# Altium schematic symbol library STM32F103ZGH6.SchLib: 1 symbol
Pins are listed as number, name and electrical type; pins without a type are passive.

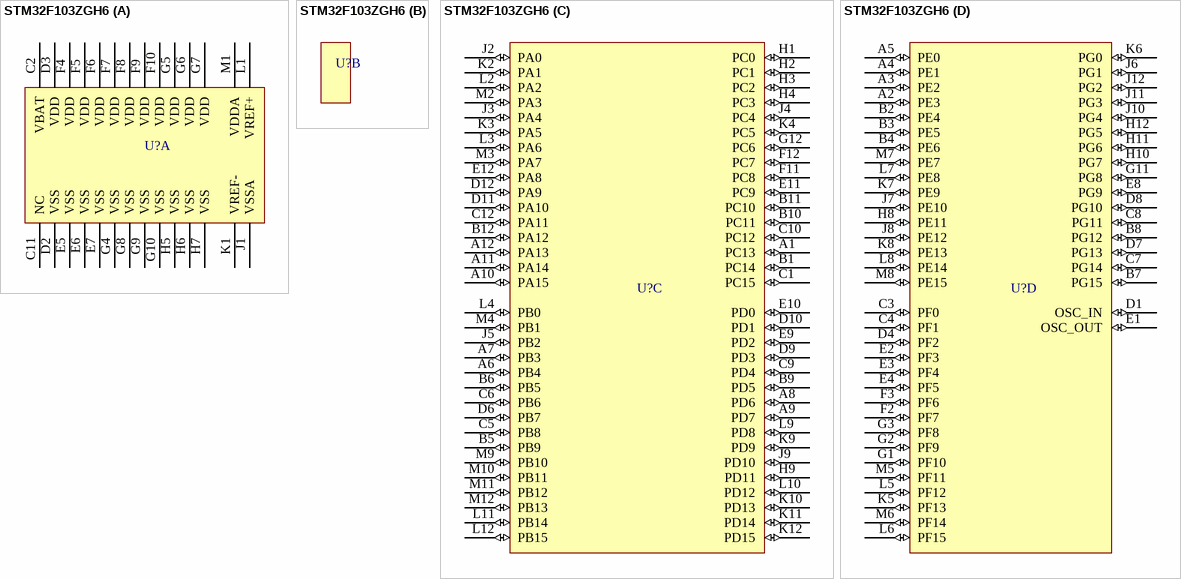
[diagram p0: symbol STM32F103ZGH6]

## STM32F103ZGH6
designator U?  (value not drawn)
Mainstream Performance line, Arm Cortex-M3 MCU with 1 Mbyte of Flash memory, 72 MHz CPU, motor control, USB and CAN
part A pins: C2 VBAT (power), C11 NC, D2 VSS (power), D3 VDD (power), E5 VSS (power), E6 VSS (power), E7 VSS (power), F4 VDD (power), F5 VDD (power), F6 VDD (power), F7 VDD (power), F8 VDD (power), F9 VDD (power), F10 VDD (power), G4 VSS (power), G5 VDD (power), G6 VDD (power), G7 VDD (power), G8 VSS (power), G9 VSS (power), G10 VSS (power), H5 VSS (power), H6 VSS (power), H7 VSS (power), J1 VSSA (power), K1 VREF- (power), L1 VREF+ (power), M1 VDDA (power)
part C pins: A1 PC13 (io), A6 PB4 (io), A7 PB3 (io), A8 PD6 (io), A9 PD7 (io), A10 PA15 (io), A11 PA14 (io), A12 PA13 (io), B1 PC14 (io), B5 PB9 (io), B6 PB5 (io), B9 PD5 (io), B10 PC11 (io), B11 PC10 (io), B12 PA12 (io), C1 PC15 (io), C5 PB8 (io), C6 PB6 (io), C9 PD4 (io), C10 PC12 (io), C12 PA11 (io), D6 PB7 (io), D9 PD3 (io), D10 PD1 (io), D11 PA10 (io), D12 PA9 (io), E9 PD2 (io), E10 PD0 (io), E11 PC9 (io), E12 PA8 (io), F11 PC8 (io), F12 PC7 (io), G12 PC6 (io), H1 PC0 (io), H2 PC1 (io), H3 PC2 (io), H4 PC3 (io), H9 PD11 (io), J2 PA0 (io), J3 PA4 (io), J4 PC4 (io), J5 PB2 (io), J9 PD10 (io), K2 PA1 (io), K3 PA5 (io), K4 PC5 (io), K9 PD9 (io), K10 PD13 (io), K11 PD14 (io), K12 PD15 (io), L2 PA2 (io), L3 PA6 (io), L4 PB0 (io), L9 PD8 (io), L10 PD12 (io), L11 PB14 (io), L12 PB15 (io), M2 PA3 (io), M3 PA7 (io), M4 PB1 (io), M9 PB10 (io), M10 PB11 (io), M11 PB12 (io), M12 PB13 (io)
part D pins: A2 PE3 (io), A3 PE2 (io), A4 PE1 (io), A5 PE0 (io), B2 PE4 (io), B3 PE5 (io), B4 PE6 (io), B7 PG15 (io), B8 PG12 (io), C3 PF0 (io), C4 PF1 (io), C7 PG14 (io), C8 PG11 (io), D1 OSC_IN (io), D4 PF2 (io), D7 PG13 (io), D8 PG10 (io), E1 OSC_OUT (io), E2 PF3 (io), E3 PF4 (io), E4 PF5 (io), E8 PG9 (io), F2 PF7 (io), F3 PF6 (io), G1 PF10 (io), G2 PF9 (io), G3 PF8 (io), G11 PG8 (io), H8 PE11 (io), H10 PG7 (io), H11 PG6 (io), H12 PG5 (io), J6 PG1 (io), J7 PE10 (io), J8 PE12 (io), J10 PG4 (io), J11 PG3 (io), J12 PG2 (io), K5 PF13 (io), K6 PG0 (io), K7 PE9 (io), K8 PE13 (io), L5 PF12 (io), L6 PF15 (io), L7 PE8 (io), L8 PE14 (io), M5 PF11 (io), M6 PF14 (io), M7 PE7 (io), M8 PE15 (io)